# Altium schematic symbol library IGBT module.SchLib: 1 symbol
Pins are listed as number, name and electrical type; pins without a type are passive.

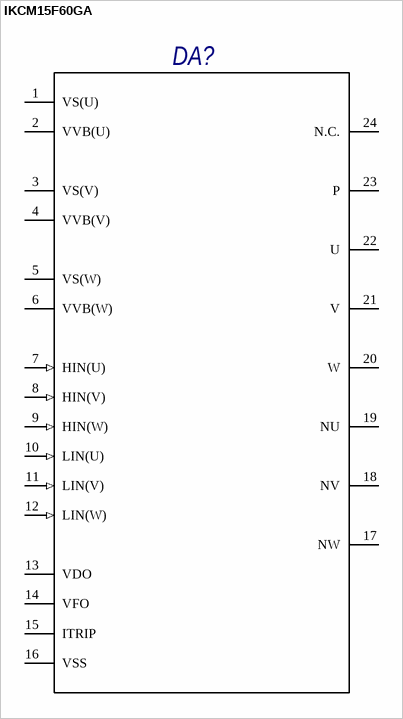
[diagram p0: symbol IKCM15F60GA]

## IKCM15F60GA
designator DA?
IGBT module
pins: 1 VS(U), 2 VVB(U), 3 VS(V), 4 VVB(V), 5 VS(W), 6 VVB(W), 7 HIN(U) (in), 8 HIN(V) (in), 9 HIN(W) (in), 10 LIN(U) (in), 11 LIN(V) (in), 12 LIN(W) (in), 13 VDO (power), 14 VFO, 15 ITRIP, 16 VSS (power), 17 NW, 18 NV, 19 NU, 20 W, 21 V, 22 U, 23 P, 24 N.C.